# Altium schematic symbol library TMUX1109PWR.SchLib: 1 symbol
Pins are listed as number, name and electrical type; pins without a type are passive.

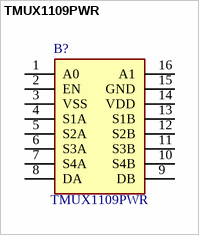
[diagram p0: symbol TMUX1109PWR]

## TMUX1109PWR
designator B?
5 V, +/-2.5 V, low-leakage-current, 4:1, 2-channel precision multiplexer; Manufacturer_Name: Texas Instruments; Geometry.Height: 1.2mm; Mouser Part Number: 595-TMUX1109PWR; Mouser Price/Stock: https://www.mouser.co.uk/ProductDetail/Texas-Instruments/TMUX1109PWR?qs=l7cgNqFNU1i6NxWAXLnZXQ%3D%3D; Manufacturer_Part_Number: TMUX1109PWR; Datasheet Link: http://www.ti.com/lit/gpn/TMUX1109
footprint SOP65P640X120-16N
pins: 1 A0, 2 EN, 3 VSS, 4 S1A, 5 S2A, 6 S3A, 7 S4A, 8 DA, 9 DB, 10 S4B, 11 S3B, 12 S2B, 13 S1B, 14 VDD, 15 GND, 16 A1